# Altium schematic symbol library SSR.SchLib: 1 symbol
Pins are listed as number, name and electrical type; pins without a type are passive.

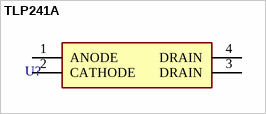
[diagram p0: symbol TLP241A]

## TLP241A
designator U?
SSR RELAY SPST-NO 2A 0-40V; Manufacturer Part Number 1: TLP241A; Manufacturer 1: Toshiba Semiconductor and Storage; Value: *; ERP: *; Supplier Part Number 1: *; Supplier 1: *; Package: 4 Pin SMD
footprint TLP241A
pins: 1 ANODE, 2 CATHODE, 3 DRAIN, 4 DRAIN